# EAGLE library part BQ05TO04 (library shepherd)
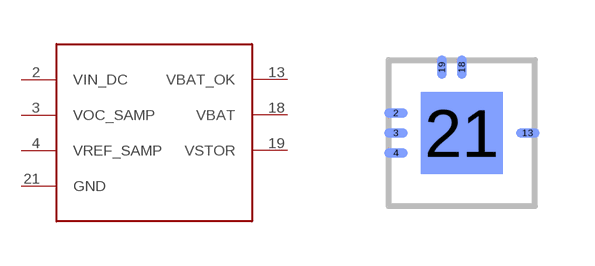
[diagram p27: symbol with the pads of BQ05TO04; footprint BQ05TO04]

Designator prefix -

## BQ05TO04  [BQ05TO04]
2  VIN_DC
3  VOC_SAMP
4  VREF_SAMP
13  VBAT_OK
18  VBAT
19  VSTOR
21  GND  pwr

## Footprint BQ05TO04 (pad centres in mm)
smd 0.6 x 0.24 bottom: 2 -1.65,0.5; 3 -1.65,0; 4 -1.65,-0.5; 13 1.65,0
smd 0.24 x 0.6 bottom: 18 0,1.65; 19 -0.5,1.65
smd 2.05 x 2.05 bottom: 21 0,0